# Altium integrated library GMK105BJ104KV-F.IntLib: 1 symbol
Pins are listed as number, name and electrical type; pins without a type are passive.

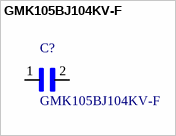
[diagram p0: symbol GMK105BJ104KV-F]

## GMK105BJ104KV-F
designator C?
Cap Ceramic 0.1uF 35V X5R 10% SMD 0402 85Â°C Paper T/R; MF: Taiyo Yuden; SnapEDA_Link: https://www.snapeda.com/parts/GMK105BJ104KV-F/Taiyo%20Yuden/view-part/?ref=snap; Digi-Key_Purchase_URL: https://www.digikey.com/product-detail/en/taiyo-yuden/GMK105BJ104KV-F/587-1994-1-ND/1646656?utm_source=snapeda&utm_medium=aggregator&utm_campaign=symbol; MP: GMK105BJ104KV-F; Package: 1005 Taiyo Yuden; Digi-Key_Part_Number: 587-1994-1-ND; Value: *
footprint *CAPC1005X55N
pins: 1, 2